# Altium footprint library CONN-0956-0-15-20-75-14-11-0.PcbLib: 1 footprints
Each footprint in its own frame and in the unit in brackets; x right, y up, seen from the top. Pads: shape width x height; smd on the part's side, far side on the other; paste and mask are expansions set on the pad; w line width, h text height; cw(c..) or ccw(c..) is an arc to the next point about the centre after c.
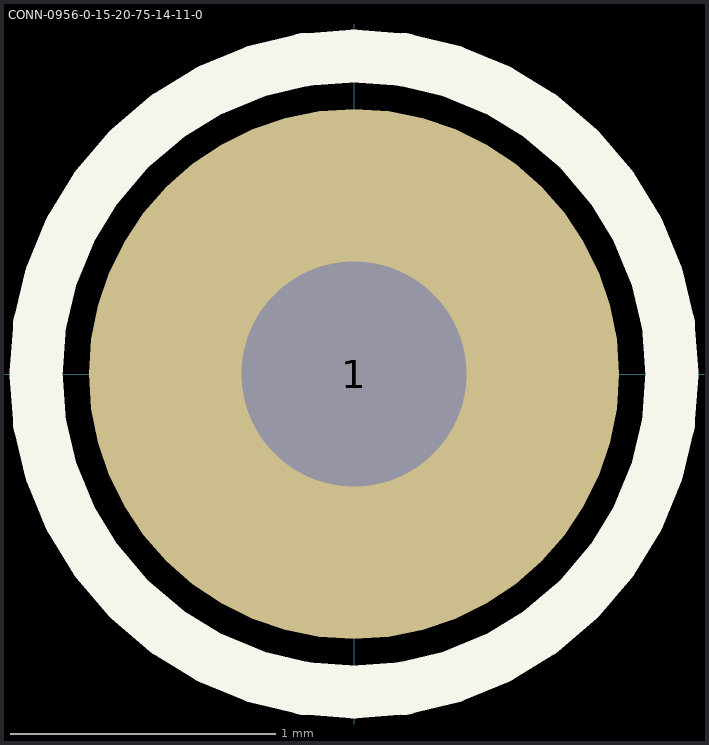
[diagram p0: the footprint, top view; thin cyan lines are the x and y axes]

## CONN-0956-0-15-20-75-14-11-0 [mm]
pads (1):
  round 2 hole 0.85: 1(0,0)
Top Overlay:
  circle w0.2: c0,0 r1.2
3D body "mill-max-0956-0-15-20-75-14-11-0.step": height 5.94, standoff -3, extent -0.915,-0.913 0.914,0.915